# Altium footprint library plcc6.PcbLib: 1 footprints
Each footprint in its own frame and in the unit in brackets; x right, y up, seen from the top. Pads: shape width x height; smd on the part's side, far side on the other; paste and mask are expansions set on the pad; w line width, h text height; cw(c..) or ccw(c..) is an arc to the next point about the centre after c.
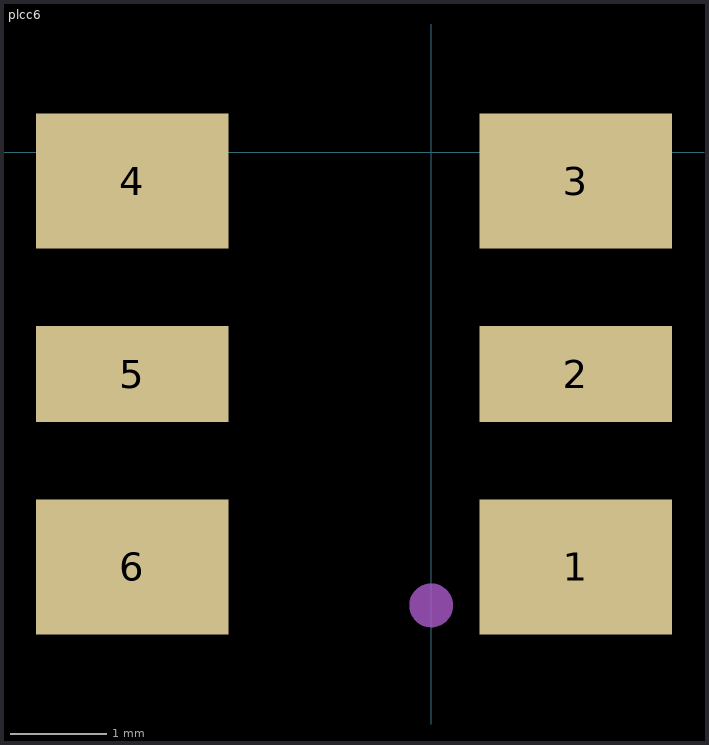
[diagram p0: the footprint, top view; thin cyan lines are the x and y axes]

## plcc6 [mm]
pads (6):
  rect 2x1.4 smd: 1(1.5,-4.3) 3(1.5,-0.3) 4(-3.1,-0.3) 6(-3.1,-4.3)
  rect 2x1 smd: 2(1.5,-2.3) 5(-3.1,-2.3)
Mechanical 1:
  circle w0.254: c0,-4.7 r0.1
3D body: height 1.5, standoff 0, extent -2,-5.1 0.4,0.5